# Altium footprint library 51005.PcbLib: 1 footprints
Each footprint in its own frame and in the unit in brackets; x right, y up, seen from the top. Pads: shape width x height; smd on the part's side, far side on the other; paste and mask are expansions set on the pad; w line width, h text height; cw(c..) or ccw(c..) is an arc to the next point about the centre after c.
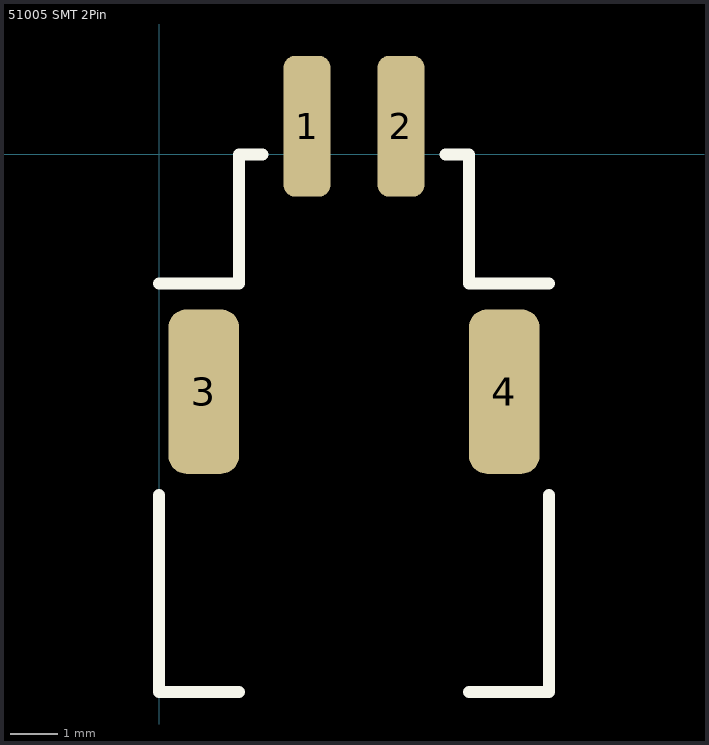
[diagram p0: the footprint, top view; thin cyan lines are the x and y axes]

## 51005 SMT 2Pin [mm]
pads (4):
  rrect50% 1x3 smd: 1(3.15,0.6) 2(5.15,0.6)
  rrect50% 1.5x3.5 smd: 3(0.95,-5.05) 4(7.35,-5.05)
Top Overlay:
  lines w0.254: 0,-7.25 0,-11.45 1.7,-11.45 ; 0,-2.75 1.7,-2.75 1.7,0 2.2,0 ; 6.1,0 6.6,0 6.6,-2.75 8.3,-2.75 ; 6.6,-11.45 8.3,-11.45 8.3,-7.25